# Altium schematic symbol library voltage_regulators.SchLib: 7 symbols
Pins are listed as number, name and electrical type; pins without a type are passive.

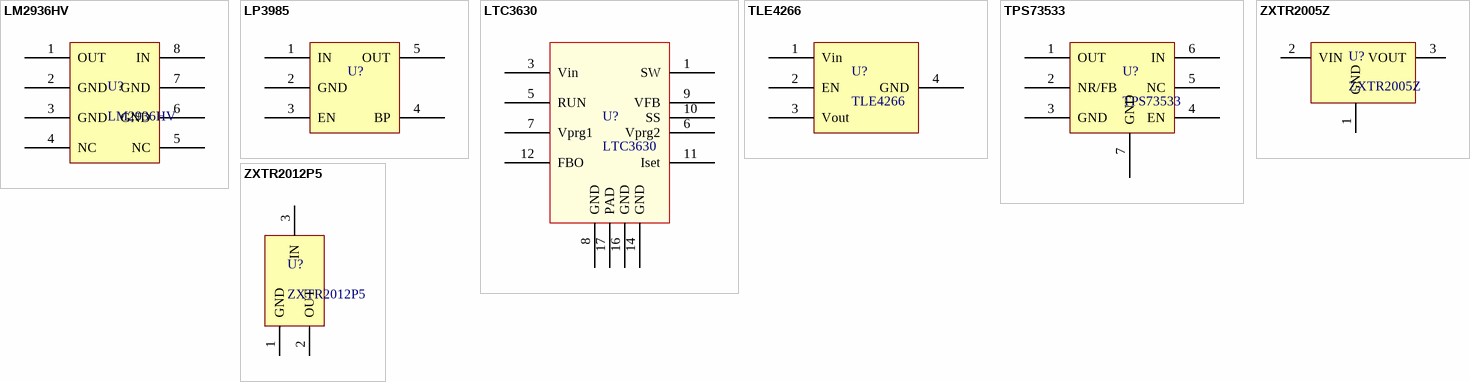
[diagram p0: symbols LM2936HV to ZXTR2012P5]

## LM2936HV
designator U?
Ultra-Low Quiescent Current LDO Voltage Regulator; Supplier 1: Digi-Key; Supplier Part Number 1: LM2936HVMAX-5.0/NOPBCT-ND
footprint SOIC-8 (SOIC, 8-Leads, Body 4.90x3.90mm, Pitch 1.27mm, IPC Medium Density)
pins: 1 OUT, 2 GND, 3 GND, 4 NC, 5 NC, 6 GND, 7 GND, 8 IN

## LP3985
designator U?  (value not drawn)
LP3985 Micropower, 150-mA Low-Noise Ultra Low-Dropout CMOS Voltage Regulator; Supplier 1: Digi-Key; Supplier Part Number 1: LP3985IM5-3.3/NOPBCT-ND
footprint SOT23-5 (SOT23, 5-Leads, Body 2.90x2.45mm, Pitch 0.95mm, IPC Medium Density)
pins: 1 IN, 2 GND, 3 EN, 4 BP, 5 OUT

## LTC3630
designator U?
High Efficiency, 65V 500mA synchronous Step-Down Converter; Supplier 1: Digi-Key; Supplier Part Number 1: LTC3630EMSE#PBF-ND
footprint MSE16(12) (TSSOP, 16-Leads, Body 4.04x3.00mm, Pitch 0.50mm, Thermal Pad 2.95x1.75mm, IPC Medium Density)
pins: 1 SW, 3 Vin, 5 RUN, 6 Vprg2, 7 Vprg1, 8 GND, 9 VFB, 10 SS, 11 Iset, 12 FBO, 14 GND, 16 GND, 17 PAD

## TLE4266
designator U?
5 V/10 V Low Drop Voltage Regulator; Supplier 1: Digi-Key; Supplier Part Number 1: TLE4266GCT-ND
footprint SOT223 (SOT223, 4-Leads, Body 6.50x7.00mm (avg), Pitch 2.30mm, IPC Medium Density)
pins: 1 Vin, 2 EN, 3 Vout, 4 GND

## TPS73533
designator U?
500mA, Low Quiescent Current, Ultra-Low Noise, High PSRR  Low-Dropout Linear Regulator; Supplier 1: Digi-Key; Supplier Part Number 1: 296-24289-1-ND
footprint SON-6 (SON, 6-Leads, Body 2.00x2.00mm, Pitch 0.65mm, Thermal Pad 1.60x0.89mm, IPC Medium Density)
pins: 1 OUT, 2 NR/FB, 3 GND, 4 EN, 5 NC, 6 IN, 7 GND

## ZXTR2005Z
designator U?
100V INPUT, 5V 30mA REGULATOR TRANSISTOR; Supplier 1: Digi-Key; Supplier Part Number 1: ZXTR2005Z-13DICT-ND
footprint SOT89 (SOT89, 3-Leads, Body 4.50x2.45mm, Pitch 1.50mm, Lead Span 4.1mm, IPC Medium Density)
pins: 1 GND, 2 VIN, 3 VOUT

## ZXTR2012P5
designator U?
100V INPUT, 12V 40mA REGULATOR TRANSISTOR; Supplier 1: Digi-Key; Supplier Part Number 1: ZXTR2012P5-13DICT-ND
footprint PowerDI-5 (PowerDI-5 from diode inc)
pins: 1 GND, 2 OUT, 3 IN